# Altium footprint library BM06B-SRSS-TB_LF__SN_ (1).PCBLIB: 1 footprints
Each footprint in its own frame and in the unit in brackets; x right, y up, seen from the top. Pads: shape width x height; smd on the part's side, far side on the other; paste and mask are expansions set on the pad; w line width, h text height; cw(c..) or ccw(c..) is an arc to the next point about the centre after c.
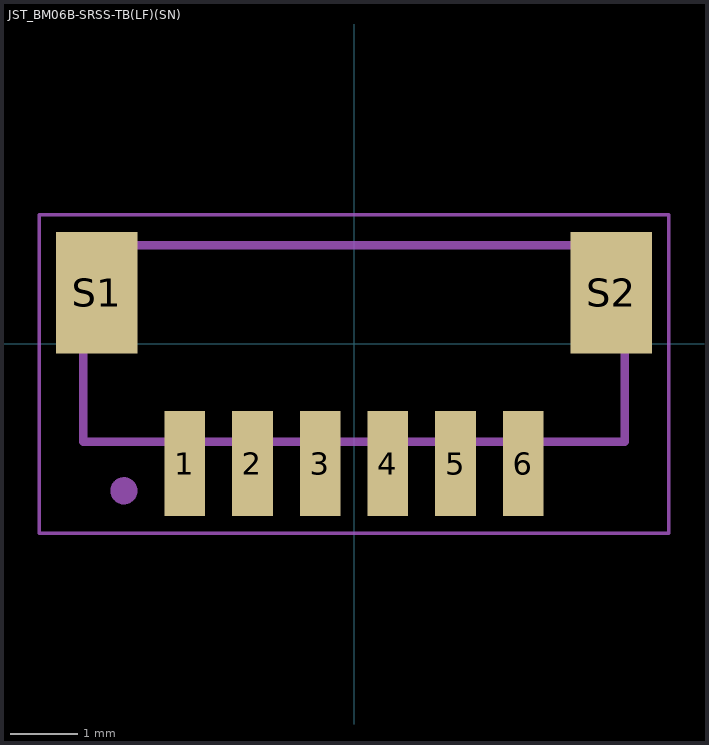
[diagram p0: the footprint, top view; thin cyan lines are the x and y axes]

## JST_BM06B-SRSS-TB(LF)(SN) [mm]
pads (8):
  rect 0.6x1.55 smd: 1(-2.5,-1.775) 2(-1.5,-1.775) 3(-0.5,-1.775) 4(0.5,-1.775) 5(1.5,-1.775) 6(2.5,-1.775)
  rect 1.2x1.8 smd: S1(-3.8,0.75) S2(3.8,0.75)
Assembly Top:
  circle w0.2: c-3.4,-2.175 r0.1
  lines w0.127: -4,-1.45 4,-1.45 4,1.45 -4,1.45 -4,-1.45
Mechanical 22:
  circle w0.2: c-3.4,-2.175 r0.1
  lines w0.127: -4,-0.525 -4,-1.45 -3.15,-1.45 ; -2.85,1.45 2.85,1.45 ; 3.15,-1.45 4,-1.45 4,-0.525
Mechanical 30:
  lines w0.05: -4.65,-2.8 4.65,-2.8 4.65,1.9 -4.65,1.9 -4.65,-2.8